# Altium footprint library IND_104CDMCCDS-100MC.PcbLib: 1 footprints
Each footprint in its own frame and in the unit in brackets; x right, y up, seen from the top. Pads: shape width x height; smd on the part's side, far side on the other; paste and mask are expansions set on the pad; w line width, h text height; cw(c..) or ccw(c..) is an arc to the next point about the centre after c.
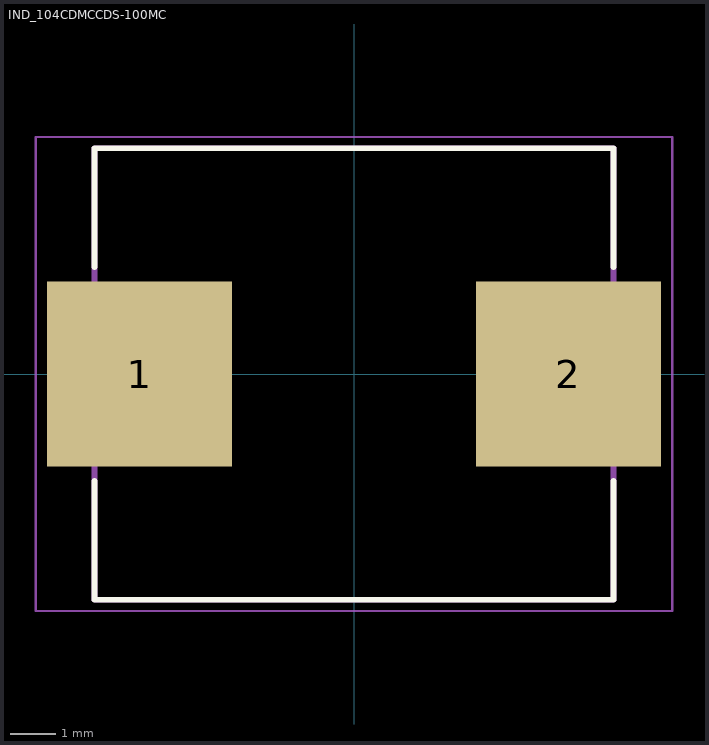
[diagram p0: the footprint, top view; thin cyan lines are the x and y axes]

## IND_104CDMCCDS-100MC [mm]
height 4
pads (2):
  rect 4.1x4.1 smd: 1(-4.75,0) 2(4.75,0)
Top Overlay:
  lines w0.127: -5.75,-2.37 -5.75,-5 5.75,-5 5.75,-2.37 ; -5.75,2.37 -5.75,5 5.75,5 5.75,2.37
Assembly Top:
  lines w0.127: -5.75,-5 -5.75,5 5.75,5 5.75,-5 -5.75,-5
Courtyard Top:
  lines w0.05: -7.05,-5.25 -7.05,5.25 7.05,5.25 7.05,-5.25 -7.05,-5.25